# EAGLE library part FTDI_HEADER (library general)
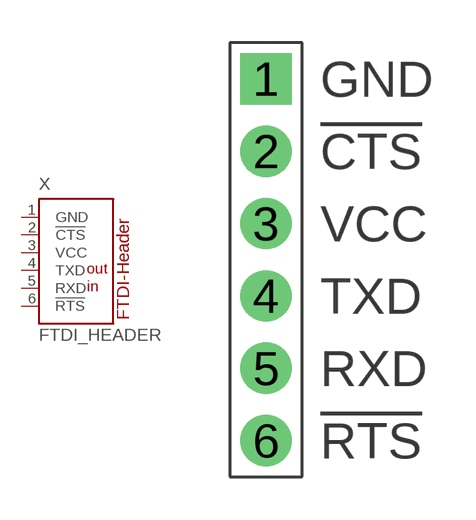
[diagram p0: symbol with the pads of FTDI_HEADER_6_100MIL; footprint FTDI_HEADER_6_100MIL]

Designator prefix X

## FTDI_HEADER  [FTDI_HEADER_6_100MIL]
1  GND
2  !CTS
3  VCC
4  TXD
5  RXD
6  !RTS

## Footprint FTDI_HEADER_6_100MIL (pad centres in mm)
drill 1.2 pad 1.8 square: 1 0,0
drill 1.2 pad 1.8: 2 0,-2.54; 3 0,-5.08; 4 0,-7.62; 5 0,-10.16; 6 0,-12.7